# Altium footprint library Conectores_PCBLIB.PcbLib: 60 footprints (part 3 of 4)
Each footprint in its own frame and in the unit in brackets; x right, y up, seen from the top. Pads: shape width x height; smd on the part's side, far side on the other; paste and mask are expansions set on the pad; w line width, h text height; cw(c..) or ccw(c..) is an arc to the next point about the centre after c.
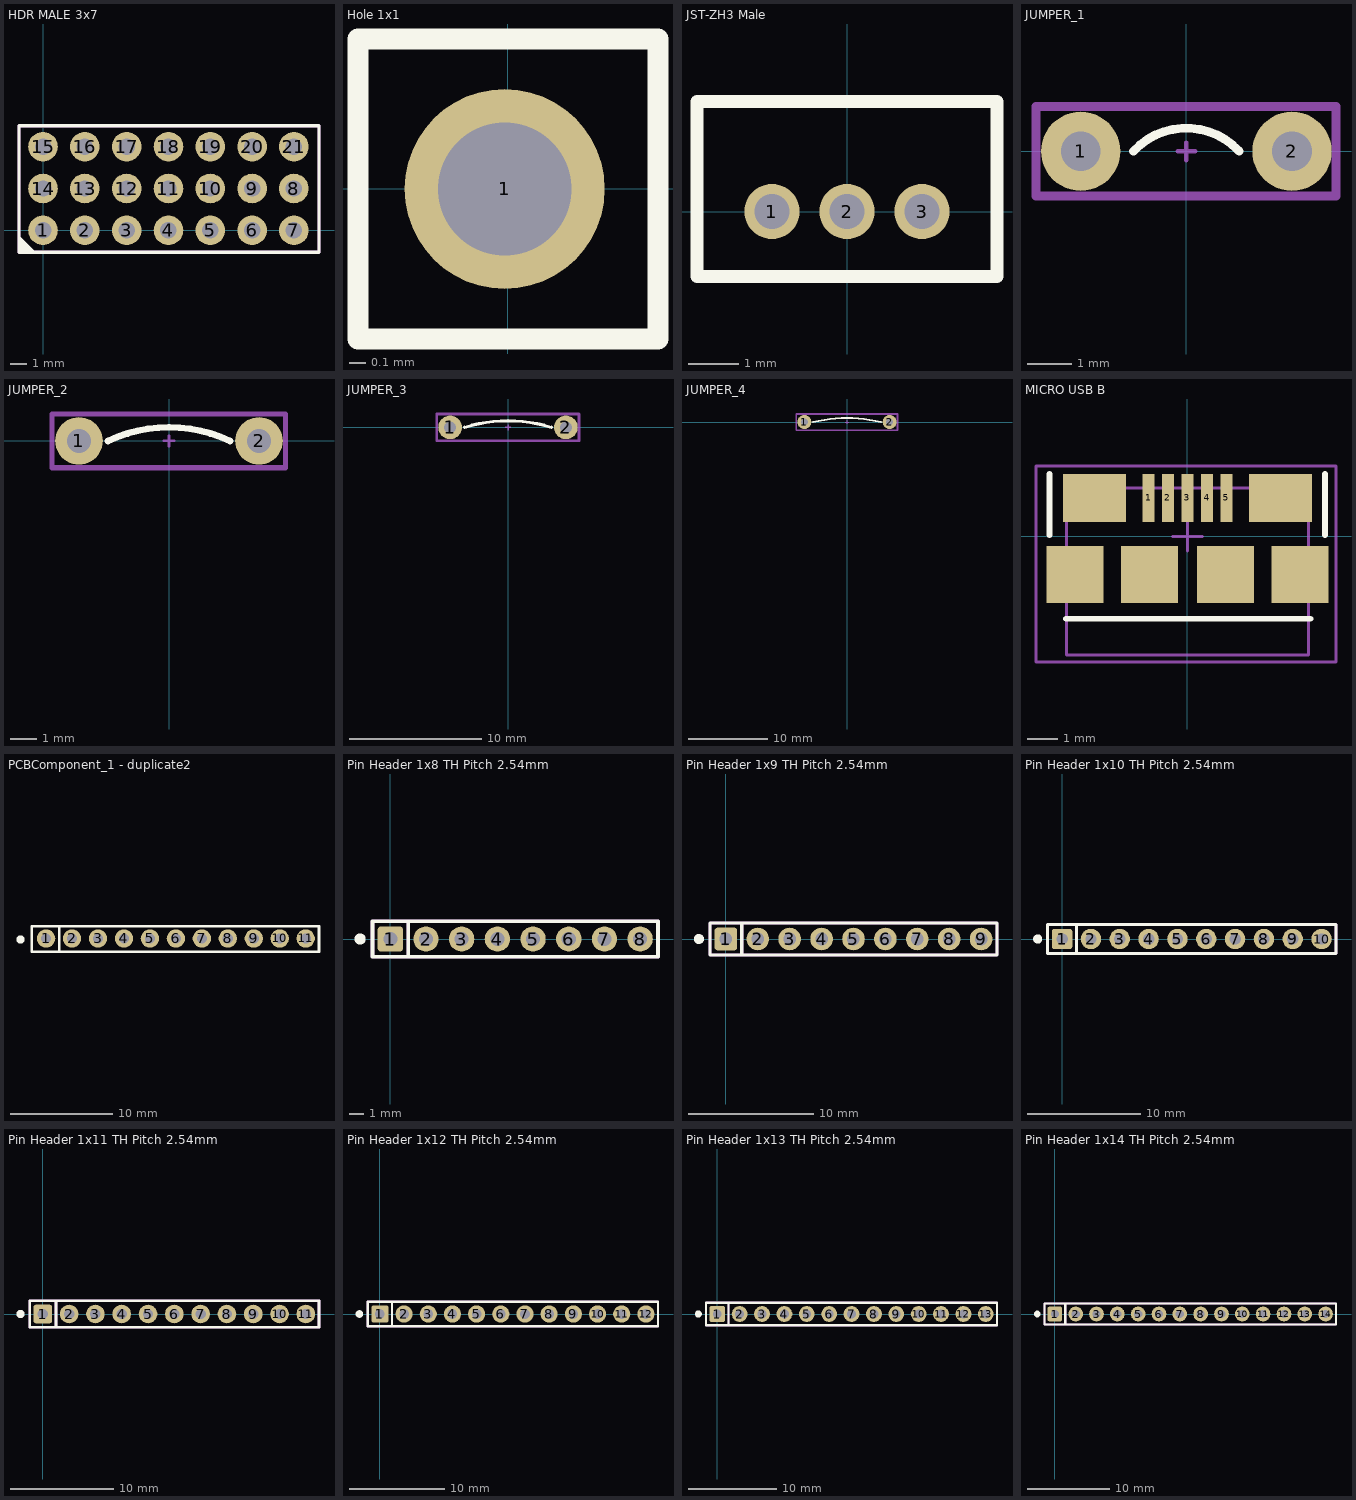
[diagram p2: the footprints below, top view; thin cyan lines are the x and y axes]

## HDR MALE 3x7 [mm] "Connector; Header; 21 Position"
pads (21):
  round 1.8 hole 1: 1(0,0) 2(2.54,0) 3(5.08,0) 4(7.62,0) 5(10.16,0) 6(12.7,0) 7(15.24,0) 8(15.24,2.54) 9(12.7,2.54) 10(10.16,2.54) 11(7.62,2.54) 12(5.08,2.54) 13(2.54,2.54) 14(0,2.54) 15(0,5.08) 16(2.54,5.08) 17(5.08,5.08) 18(7.62,5.08) 19(10.16,5.08) 20(12.7,5.08) 21(15.24,5.08)
Top Overlay:
  region: -1.397,-1.33 -0.508,-1.33 -0.508,-1.27 -1.397,-0.381
  lines w0.2: -1.46,-1.33 -1.46,6.35 16.764,6.35 16.764,-1.33 -1.46,-1.33
Mechanical 15:
  lines w0.2: -1.46,-1.33 -1.46,6.35 16.764,6.35 16.764,-1.33 -1.46,-1.33
Mechanical 29:
  text "1" at 1.016,-1.016 h0.5
  text ".Designator" at -1.16,4.37 h0.5
3D body: height 0.25, standoff 0, extent 0,5.08 0,5.08
3D body "7x3 male Header.STEP": height 8.54, standoff -3, extent -1.245,-1.27 16.485,6.35

## Hole 1x1 [mm] "Generic Hole"
pads (1):
  round 1.2 hole 0.8: 1(-0.02,0)
Top Overlay:
  lines w0.127: -0.9,-0.9 -0.9,0.9 0.9,0.9 0.9,-0.9 -0.9,-0.9

## JST-ZH3 Male [mm]
pads (3):
  round 1.1 hole 0.7: 1(-1.5,0) 2(0,0) 3(1.5,0)
Top Overlay:
  lines w0.254: -3,-1.3 -3,2.2 3,2.2 3,-1.3 -3,-1.3
3D body "JST-ZH3.STEP": height 4.5, standoff -2.7, extent -3,-1.27 3,2.23

## JUMPER_1 [mm] "Jumper - 1 tracks"
pads (2):
  round 1.8 hole 0.9: 1(-2.4,0) 2(2.4,0)
Top Overlay:
  lines w0.2: -1.2,0 cw(c0,-1.1) 1.2,0
Mechanical 15:
  lines w0.1: -0.2,0 0.2,0 ; 0,-0.2 0,0.2
  lines w0.2: -3.416,-1.016 -3.416,1.016 3.4,1.016 3.4,-1.016 -3.416,-1.016
Mechanical 29:
  text "1" at -1.257,-0.762 h0.5
  text ".Designator" at -3.162,1.478 h0.5

## JUMPER_2 [mm] "Jumper - 2 tracks"
pads (2):
  round 1.8 hole 0.9: 1(-3.4,0) 2(3.4,0)
Top Overlay:
  lines w0.254: -2.3,0 cw(c0,-4.9) 2.3,0
Mechanical 15:
  lines w0.1: -0.2,0 0.2,0 ; 0,-0.2 0,0.2
  lines w0.2: -4.416,-1.016 -4.416,1.016 4.4,1.016 4.4,-1.016 -4.416,-1.016
Mechanical 29:
  text "1" at -2.257,-0.762 h0.5
  text ".Designator" at -4.162,1.478 h0.5

## JUMPER_3 [mm] "Jumper - 3 tracks"
pads (2):
  round 1.8 hole 0.9: 1(-4.4,0) 2(4.4,0)
Top Overlay:
  lines w0.254: -3.3,0 cw(c0,-10.64) 3.3,0
Mechanical 15:
  lines w0.1: -0.2,0 0.2,0 ; 0,-0.2 0,0.2
  lines w0.2: -5.416,-1.016 5.4,-1.016 5.4,1.016 -5.416,1.016 -5.416,-1.016
Mechanical 29:
  text ".Designator" at -5.162,1.478 h0.5
  text "1" at -3.257,-0.762 h0.5

## JUMPER_4 [mm] "Jumper - 4 tracks"
pads (2):
  round 1.8 hole 0.9: 1(-5.4,0) 2(5.4,0)
Top Overlay:
  lines w0.254: -4.3,0 cw(c0,-18.24) 4.3,0
Mechanical 15:
  lines w0.1: -0.2,0 0.2,0 ; 0,-0.2 0,0.2
  lines w0.2: -6.416,-1.016 -6.416,1.016 6.4,1.016 6.4,-1.016 -6.416,-1.016
Mechanical 29:
  text "1" at -4.257,-0.762 h0.5
  text ".Designator" at -6.162,1.478 h0.5

## MICRO USB B [mm] "Connector Micro USB B Receptacle SMT"
height 2.5
pads (11):
  rect 0.4x1.6 smd: 1(-1.3,1.275) 2(-0.65,1.275) 3(0,1.275) 4(0.65,1.275) 5(1.3,1.275)
  rect 1.9x1.9 smd: ""(-3.75,-1.275) ""(-1.27,-1.275) ""(1.27,-1.275) ""(3.75,-1.275)
  rect 2.1x1.6 smd: ""(-3.1,1.275) ""(3.1,1.275)
Top Overlay:
  lines w0.2: -4.6,0.05 -4.6,2.082 ; -4.05,-2.75 4.1,-2.75 ; 4.59,0.05 4.59,2.082
Mechanical 13:
  lines w0.1: -4.039,-3.955 -4.039,1.609 4.04,1.609 4.04,-3.955 -4.039,-3.955
Mechanical 15:
  lines w0.1: -0.5,0 0.5,0 ; 0,-0.5 0,0.5 ; -5.05,-4.2 -5.05,2.35 4.95,2.35 4.95,-4.2 -5.05,-4.2
Mechanical 29:
  text ".Designator" at 0,0 h1
3D body "Micro_USB_B.STEP": height 2.77, standoff -0.26, extent -4.039,-3.955 4.04,1.609

## PCBComponent_1 - duplicate2 [mm]
pads (11):
  round 1.8 hole 1: 1(-1261.1,-1256.7) 2(-1258.56,-1256.7) 3(-1256.02,-1256.7) 4(-1253.48,-1256.7) 5(-1250.94,-1256.7) 6(-1248.4,-1256.7) 7(-1245.86,-1256.7) 8(-1243.32,-1256.7) 9(-1240.78,-1256.7) 10(-1238.24,-1256.7) 11(-1235.7,-1256.7)
Top Overlay:
  circle w0.5: c-1263.6,-1256.8 r0.15
  lines w0.254: -1259.8,-1258 -1259.8,-1255.5 ; -1262.5,-1258 -1262.5,-1255.5 -1234.4,-1255.5 -1234.4,-1258 -1262.5,-1258
3D body "Pin Header 1x11 TH Pitch 2.54mm.stp": height 9.5, standoff -3.2, extent -1262.37,-1258 -1234.43,-1255.46

## Pin Header 1x8 TH Pitch 2.54mm [mm] "PinHeader 1x8 TH Pitch 2.54mm"
height 9.5
pads (8):
  rrect25% 1.8x1.8 hole 1: 1(0,0)
  round 1.8 hole 1: 2(2.54,0) 3(5.08,0) 4(7.62,0) 5(10.16,0) 6(12.7,0) 7(15.24,0) 8(17.78,0)
Top Overlay:
  circle w0.5: c-2.15,0 r0.15
  lines w0.254: 1.27,-1.27 1.27,1.27 -1.27,1.27 ; -1.27,1.27 19.05,1.27 19.05,-1.27 -1.27,-1.27 -1.27,1.27
Mechanical 3:
  lines w0.254: 1.27,-1.27 1.27,1.27 -1.27,1.27 ; -1.27,1.27 19.05,1.27 19.05,-1.27 -1.27,-1.27 -1.27,1.27
3D body "Pin Header 1x8 TH Pitch 2.54mm.stp": height 9.5, standoff -3.2, extent -1.27,-1.27 19.05,1.27

## Pin Header 1x9 TH Pitch 2.54mm [mm] "PinHeader 1x9 TH Pitch 2.54mm"
height 9.5
pads (9):
  rrect25% 1.8x1.8 hole 1: 1(0,0)
  round 1.8 hole 1: 2(2.54,0) 3(5.08,0) 4(7.62,0) 5(10.16,0) 6(12.7,0) 7(15.24,0) 8(17.78,0) 9(20.32,0)
Top Overlay:
  circle w0.5: c-2.15,0 r0.15
  lines w0.254: 1.27,-1.27 1.27,1.27 -1.27,1.27 ; -1.27,1.27 -1.27,-1.27 21.59,-1.27 21.59,1.27 -1.27,1.27
Mechanical 3:
  lines w0.254: 1.27,-1.27 1.27,1.27 -1.27,1.27 ; -1.27,1.27 -1.27,-1.27 21.59,-1.27 21.59,1.27 -1.27,1.27
3D body "Pin Header 1x9 TH Pitch 2.54mm.stp": height 9.5, standoff -3.2, extent -1.27,-1.27 21.59,1.27

## Pin Header 1x10 TH Pitch 2.54mm [mm] "PinHeader 1x10 TH Pitch 2.54mm"
height 9.5
pads (10):
  rrect25% 1.8x1.8 hole 1: 1(0,0)
  round 1.8 hole 1: 2(2.54,0) 3(5.08,0) 4(7.62,0) 5(10.16,0) 6(12.7,0) 7(15.24,0) 8(17.78,0) 9(20.32,0) 10(22.86,0)
Top Overlay:
  circle w0.5: c-2.15,0 r0.15
  lines w0.254: 1.27,-1.27 1.27,1.27 -1.27,1.27 ; -1.27,1.27 -1.27,-1.27 24.13,-1.27 24.13,1.27 -1.27,1.27
Mechanical 3:
  lines w0.254: 1.27,-1.27 1.27,1.27 -1.27,1.27 ; -1.27,1.27 -1.27,-1.27 24.13,-1.27 24.13,1.27 -1.27,1.27
3D body "Pin Header 1x10 TH Pitch 2.54mm.stp": height 9.5, standoff -3.2, extent -1.27,-1.27 24.13,1.27

## Pin Header 1x11 TH Pitch 2.54mm [mm] "PinHeader 1x11 TH Pitch 2.54mm"
height 9.5
pads (11):
  rrect25% 1.8x1.8 hole 1: 1(0,0)
  round 1.8 hole 1: 2(2.54,0) 3(5.08,0) 4(7.62,0) 5(10.16,0) 6(12.7,0) 7(15.24,0) 8(17.78,0) 9(20.32,0) 10(22.86,0) 11(25.4,0)
Top Overlay:
  circle w0.5: c-2.15,0 r0.15
  lines w0.254: 1.27,-1.27 1.27,1.27 -1.27,1.27 ; -1.27,1.27 -1.27,-1.27 26.67,-1.27 26.67,1.27 -1.27,1.27
Mechanical 3:
  lines w0.254: 1.27,-1.27 1.27,1.27 -1.27,1.27 ; -1.27,1.27 -1.27,-1.27 26.67,-1.27 26.67,1.27 -1.27,1.27
3D body "Pin Header 1x11 TH Pitch 2.54mm.stp": height 9.5, standoff -3.2, extent -1.27,-1.27 26.67,1.27

## Pin Header 1x12 TH Pitch 2.54mm [mm] "PinHeader 1x12 TH Pitch 2.54mm"
height 9.5
pads (12):
  rrect25% 1.8x1.8 hole 1: 1(0,0)
  round 1.8 hole 1: 2(2.54,0) 3(5.08,0) 4(7.62,0) 5(10.16,0) 6(12.7,0) 7(15.24,0) 8(17.78,0) 9(20.32,0) 10(22.86,0) 11(25.4,0) 12(27.94,0)
Top Overlay:
  circle w0.5: c-2.15,0 r0.15
  lines w0.254: 1.27,-1.27 1.27,1.27 -1.27,1.27 ; -1.27,1.27 -1.27,-1.27 29.21,-1.27 29.21,1.27 -1.27,1.27
Mechanical 3:
  lines w0.254: 1.27,-1.27 1.27,1.27 -1.27,1.27 ; -1.27,1.27 -1.27,-1.27 29.21,-1.27 29.21,1.27 -1.27,1.27
3D body "Pin Header 1x12 TH Pitch 2.54mm.stp": height 9.5, standoff -3.2, extent -1.27,-1.27 29.21,1.27

## Pin Header 1x13 TH Pitch 2.54mm [mm] "PinHeader 1x13 TH Pitch 2.54mm"
height 9.5
pads (13):
  rrect25% 1.8x1.8 hole 1: 1(0,0)
  round 1.8 hole 1: 2(2.54,0) 3(5.08,0) 4(7.62,0) 5(10.16,0) 6(12.7,0) 7(15.24,0) 8(17.78,0) 9(20.32,0) 10(22.86,0) 11(25.4,0) 12(27.94,0) 13(30.48,0)
Top Overlay:
  circle w0.5: c-2.15,0 r0.15
  lines w0.254: 1.27,-1.27 1.27,1.27 -1.27,1.27 ; -1.27,1.27 -1.27,-1.27 31.75,-1.27 31.75,1.27 -1.27,1.27
Mechanical 3:
  lines w0.254: 1.27,-1.27 1.27,1.27 -1.27,1.27 ; -1.27,1.27 -1.27,-1.27 31.75,-1.27 31.75,1.27 -1.27,1.27
3D body "Pin Header 1x13 TH Pitch 2.54mm.stp": height 9.5, standoff -3.2, extent -1.27,-1.27 31.75,1.27

## Pin Header 1x14 TH Pitch 2.54mm [mm] "PinHeader 1x14 TH Pitch 2.54mm"
height 9.5
pads (14):
  rrect25% 1.8x1.8 hole 1: 1(0,0)
  round 1.8 hole 1: 2(2.54,0) 3(5.08,0) 4(7.62,0) 5(10.16,0) 6(12.7,0) 7(15.24,0) 8(17.78,0) 9(20.32,0) 10(22.86,0) 11(25.4,0) 12(27.94,0) 13(30.48,0) 14(33.02,0)
Top Overlay:
  circle w0.5: c-2.15,0 r0.15
  lines w0.254: 1.27,-1.27 1.27,1.27 -1.27,1.27 ; -1.27,1.27 34.29,1.27 34.29,-1.27 -1.27,-1.27 -1.27,1.27
Mechanical 3:
  lines w0.254: 1.27,-1.27 1.27,1.27 -1.27,1.27 ; -1.27,1.27 34.29,1.27 34.29,-1.27 -1.27,-1.27 -1.27,1.27
3D body "Pin Header 1x14 TH Pitch 2.54mm.stp": height 9.5, standoff -3.2, extent -1.27,-1.27 34.29,1.27